# EAGLE library part MIRAGE_CARTRIDGE (library cart-proto)
Mirage Expansion Port
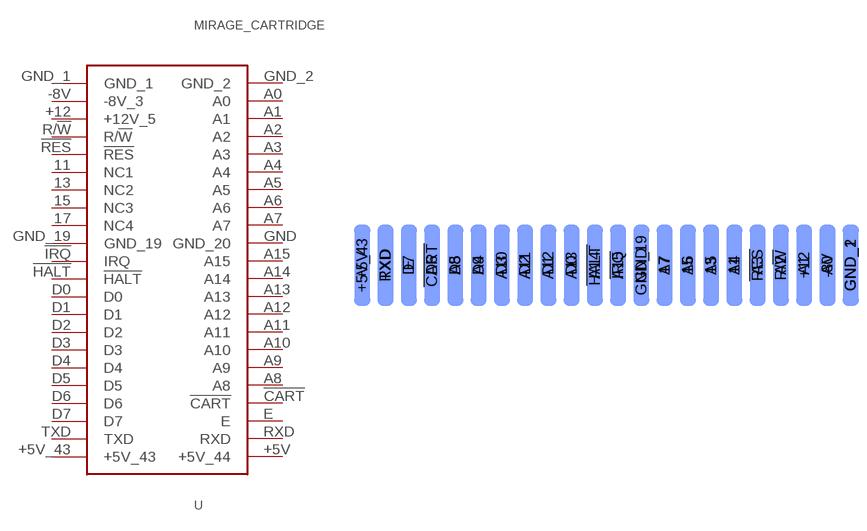
[diagram p2: symbol with the pads of CARTRIDGE_EXPANSION-PORT; footprint CARTRIDGE_EXPANSION-PORT]

Designator prefix -

## MIRAGE_CARTRIDGE  [CARTRIDGE_EXPANSION-PORT]
11  NC1
13  NC2
15  NC3
17  NC4
!CART  !CART
!HALT  !HALT
!IRQ  IRQ
!RES  !RES
+5V  +5V_44
+5V_43  +5V_43
+12  +12V_5
-8V  -8V_3
A0  A0
A1  A1
A2  A2
A3  A3
A4  A4
A5  A5
A6  A6
A7  A7
A8  A8
A9  A9
A10  A10
A11  A11
A12  A12
A13  A13
A14  A14
A15  A15
D0  D0
D1  D1
D2  D2
D3  D3
D4  D4
D5  D5
D6  D6
D7  D7
E  E
GND  GND_20
GND_1  GND_1
GND_2  GND_2
GND_19  GND_19
R/!W  R/!W
RXD  RXD
TXD  TXD

## Footprint CARTRIDGE_EXPANSION-PORT (pad centres in mm)
smd 1.778 x 8.89 bottom: 11 38.1,0; 13 35.56,0; 15 33.02,0; 17 30.48,0; !HALT 22.86,0; !IRQ 25.4,0; !RES 40.64,0; +5V_43 -2.54,0; +12 45.72,0; -8V 48.26,0; D0 20.32,0; D1 17.78,0; D2 15.24,0; D3 12.7,0; D4 10.16,0; D5 7.62,0; D6 5.08,0; D7 2.54,0; GND_1 50.8,0; GND_19 27.94,0; R/!W 43.18,0; TXD 0,0
smd 1.778 x 8.89: !CART 5.08,0; +5V -2.54,0; A0 48.26,0; A1 45.72,0; A2 43.18,0; A3 40.64,0; A4 38.1,0; A5 35.56,0; A6 33.02,0; A7 30.48,0; A8 7.62,0; A9 10.16,0; A10 12.7,0; A11 15.24,0; A12 17.78,0; A13 20.32,0; A14 22.86,0; A15 25.4,0; E 2.54,0; GND 27.94,0; GND_2 50.8,0; RXD 0,0